# Altium schematic symbol library 50SVT68M.SchLib: 1 symbol
Pins are listed as number, name and electrical type; pins without a type are passive.

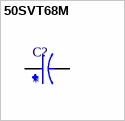
[diagram p0: symbol 50SVT68M]

## 50SVT68M
designator C?
MP: 50SVT68M; Package: None; Price: None; Availability: Unavailable; Value: *
footprint CAP_50SVT68M
pins: 1, 2